# Altium footprint library PcbLib1.PcbLib: 1 footprints
Each footprint in its own frame and in the unit in brackets; x right, y up, seen from the top. Pads: shape width x height; smd on the part's side, far side on the other; paste and mask are expansions set on the pad; w line width, h text height; cw(c..) or ccw(c..) is an arc to the next point about the centre after c.
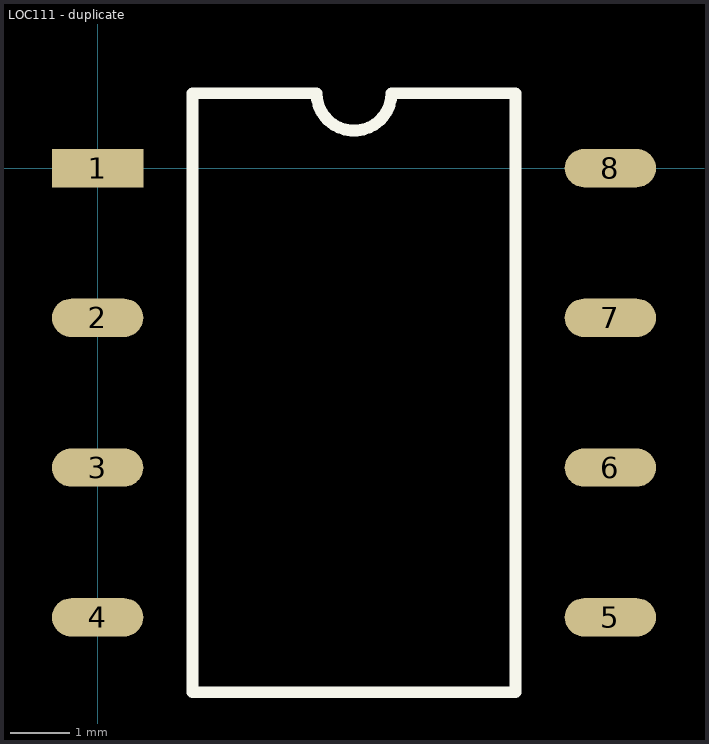
[diagram p0: the footprint, top view; thin cyan lines are the x and y axes]

## LOC111 - duplicate [mm]
pads (8):
  rect 1.55x0.65 smd: 1(0,0)
  oval 1.55x0.65 smd: 2(0,-2.54) 3(0,-5.08) 4(0,-7.62) 5(8.7,-7.62) 6(8.7,-5.08) 7(8.7,-2.54) 8(8.7,0)
Top Overlay:
  lines w0.2: 1.61,-8.89 7.09,-8.89 7.09,1.27 4.985,1.27 cw(c4.35,1.27) 3.715,1.27 1.61,1.27 1.61,-8.89